# Altium schematic symbol library DC-012H.SchLib: 1 symbol
Pins are listed as number, name and electrical type; pins without a type are passive.

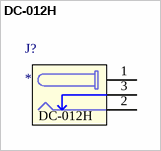
[diagram p0: symbol DC-012H]

## DC-012H
designator J?
pins: 1 (power), 2 (power), 3 (power)